# EAGLE library part AVR_ISP_ANIBIKE (library AniBike_Common_Library)
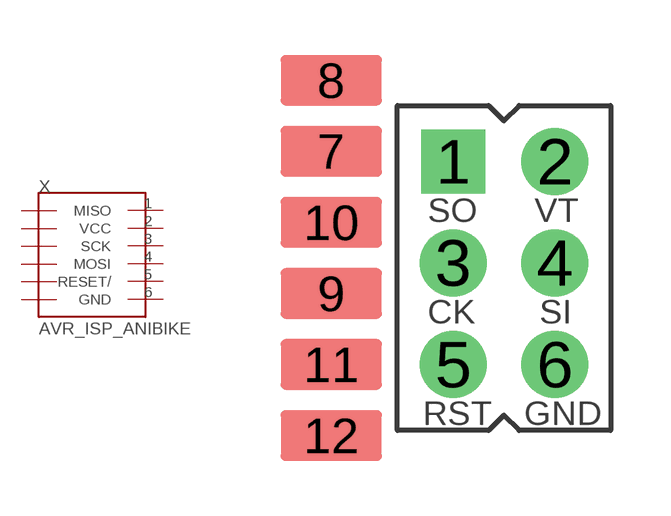
[diagram p7: symbol with the pads of AVR_ISP_ANIBIKE; footprint AVR_ISP_ANIBIKE]

Designator prefix X

## AVR_ISP_ANIBIKE  [AVR_ISP_ANIBIKE]
1  MISO
2  VCC
3  SCK
4  MOSI
5  RESET/
6  GND
7  MISO_SMT
8  VCC_SMT
9  SCK_SMT
10  MOSI_SMT
11  RESET_SMT
12  GND_SMT

## Footprint AVR_ISP_ANIBIKE (pad centres in mm)
drill 1.067 square: 1 0,2.54
drill 1.067 pad 1.676 round: 2 2.54,2.54; 3 0,0; 4 2.54,0; 5 0,-2.54; 6 2.54,-2.54
smd 2.54 x 1.27: 7 -3.048,2.794; 8 -3.048,4.572; 9 -3.048,-0.762; 10 -3.048,1.016; 11 -3.048,-2.54; 12 -3.048,-4.318